# Altium footprint library 虚拟示波器.PCBLIB: 25 footprints (part 1 of 2)
Each footprint in its own frame and in the unit in brackets; x right, y up, seen from the top. Pads: shape width x height; smd on the part's side, far side on the other; paste and mask are expansions set on the pad; w line width, h text height; cw(c..) or ccw(c..) is an arc to the next point about the centre after c.
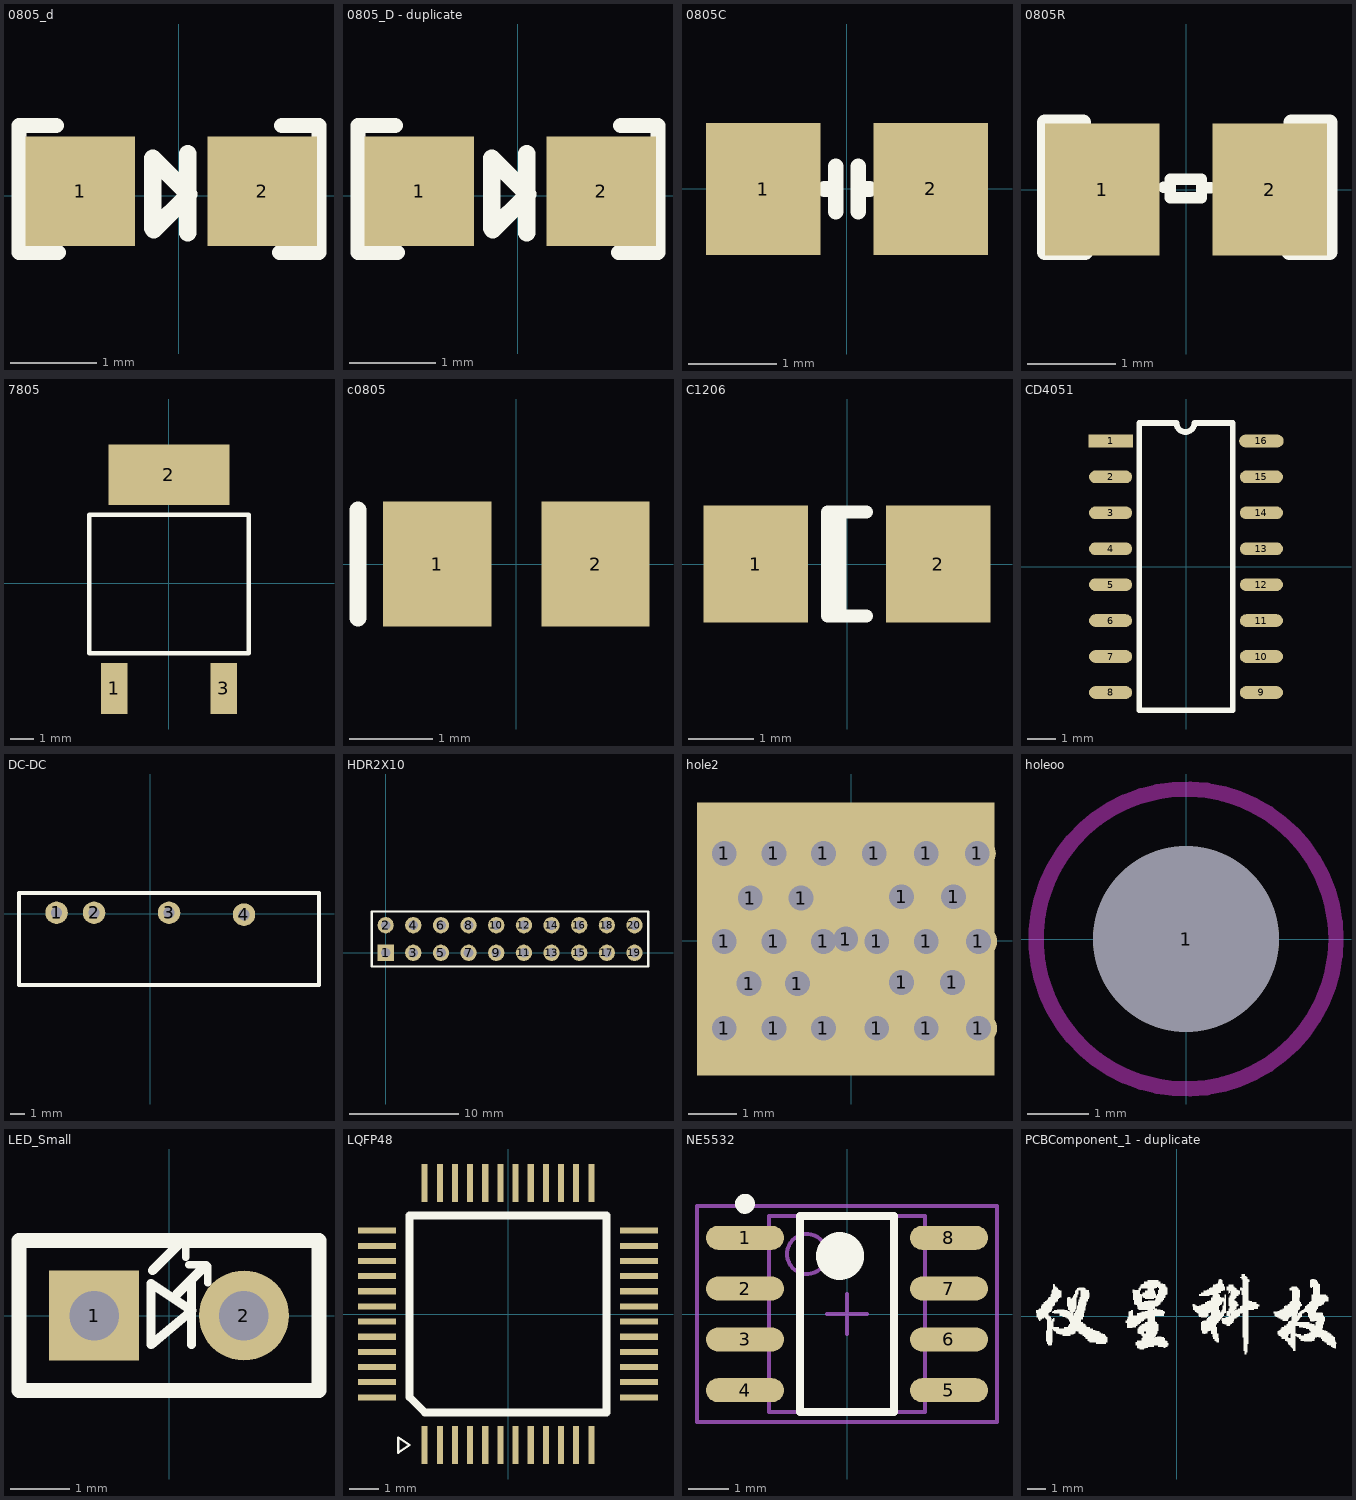
[diagram p0: the footprints below, top view; thin cyan lines are the x and y axes]

## 0805_d [mil]
pads (2):
  rect 50x50 smd: 1(-45,2) 2(38,2)
Top Overlay:
  lines w7: -56,32 -73,32 -73,-26 -55,-26 ; 46,-26 64,-26 64,32 47,32
  lines w8: -12,-15 -12,17 4.5,0.5 ; -11.5,-15.5 4,0 ; 4,-17 4,19

## 0805_D - duplicate [mil]
pads (2):
  rect 50x50 smd: 1(-45,2) 2(38,2)
Top Overlay:
  lines w7: -56,32 -73,32 -73,-26 -55,-26 ; 46,-26 64,-26 64,32 47,32
  lines w8: -12,-15 -12,17 4.5,0.5 ; -11.5,-15.5 4,0 ; 4,-17 4,19

## 0805C [mm] "Chip Capacitor; Body 2.0 x 1.2 mm (LxW typ)"
height 1.1
pads (2):
  rect 1.3x1.5 smd: 1(-0.95,0) 2(0.95,0)
Top Overlay:
  lines w0.178: -0.254,0 -0.127,0 ; -0.127,-0.254 -0.127,0.254 ; 0.127,-0.254 0.127,0.254 ; 0.127,0 0.254,0

## 0805R [mm] "Chip Capacitor; Body 2.0 x 1.2 mm (LxW typ)"
height 1.1
pads (2):
  rect 1.3x1.5 smd: 1(-0.95,0) 2(0.95,0)
Top Overlay:
  lines w0.127: -0.255,0.027 -0.178,0.027 ; 0.203,0.019 0.279,0.019 ; -0.178,0.117 0.177,0.117 0.177,-0.094 -0.178,-0.094 -0.178,0.117
  lines w0.178: -1.168,0.762 -1.6,0.762 -1.6,-0.711 -1.143,-0.711 ; 1.168,-0.711 1.626,-0.711 1.626,0.762 1.194,0.762

## 7805 [mm]
pads (3):
  rect 1.1x2.15 smd: 1(-2.3,-4.407) 3(2.3,-4.407)
  rect 5.08x2.54 smd: 2(0,4.572)
Top Overlay:
  lines w0.2: -3.35,-2.933 -3.35,2.883 3.35,2.883 3.35,-2.933 -3.35,-2.933

## c0805 [mm] "Chip Capacitor; Body 2.0 x 1.2 mm (LxW typ)"
height 1.1
pads (2):
  rect 1.3x1.5 smd: 1(-0.95,0) 2(0.95,0)
Top Overlay:
  lines w0.2: -1.9,-0.65 -1.9,0.65

## C1206 [mm] "Chip Capacitor; Body 3.2 x 1.6 mm (LxW typ)"
height 1.35
pads (2):
  rect 1.6x1.8 smd: 1(-1.4,0) 2(1.4,0)
Top Overlay:
  lines w0.2: -0.11,-0.8 -0.11,0.8 ; 0.3,-0.8 -0.3,-0.8 -0.3,0.8 0.3,0.8

## CD4051 [mil]
height 43.31
pads (16):
  rect 62x17.72 smd: 1(-105,175)
  oval 60x17.72 smd: 2(-105,125) 3(-105,75) 4(-105,25) 5(-105,-25) 6(-105,-75) 7(-105,-125) 8(-105,-175) 9(105,-175) 10(105,-125) 11(105,-75) 12(105,-25) 13(105,25) 14(105,75) 15(105,125)
  oval 62x17.72 smd: 16(105,175)
Top Overlay:
  lines w7.87: -40.7,-200 39.22,-200 ; -65,-200 -65,200 -13.24,200 ccw(c-0.74,200) 11.76,200 65,200 65,-200 -65,-200

## DC-DC [mil]
pads (4):
  round 60 hole 30: 1(-250,2.5) 2(-150,2.5) 3(50,2.5) 4(250,-2.5)
Top Overlay:
  lines w10: -350,-190 450,-190 450,55 -350,55 -350,-190

## HDR2X10 [mm] "Connector; Header; 10x2 Position"
height 1.1
pads (20):
  rect 1.5x1.5 hole 0.9: 1(0,0)
  round 1.5 hole 0.9: 2(0,2.54) 3(2.54,0) 4(2.54,2.54) 5(5.08,0) 6(5.08,2.54) 7(7.62,0) 8(7.62,2.54) 9(10.16,0) 10(10.16,2.54) 11(12.7,0) 12(12.7,2.54) 13(15.24,0) 14(15.24,2.54) 15(17.78,0) 16(17.78,2.54) 17(20.32,0) 18(20.32,2.54) 19(22.86,0) 20(22.86,2.54)
Top Overlay:
  lines w0.2: -1.27,-1.27 0.635,-1.27 24.13,-1.27 24.13,3.81 0.635,3.81 -1.27,3.81 -1.27,-1.27

## hole2 [mil]
pads (27):
  round 30 hole 20: 1(-102.5,-70.5) 1(-102.5,70.5) 1(-102.5,-0.5) 1(-82.5,-34.5) 1(-81.5,34.5) 1(-62.5,-0.5) 1(-62.5,-70.5) 1(-62.5,70.5) 1(-43.5,-34.5) 1(-40.5,34.5) 1(-22.5,-70.5) 1(-22.5,-0.5) 1(-22.5,70.5) 1(18.5,70.5) 1(20.5,-70.5) 1(20.5,-0.5) 1(40.5,-33.5) 1(40.5,35.5) 1(60.5,-70.5) 1(60.5,-0.5) 1(60.5,70.5) 1(81.5,-33.5) 1(82.5,35.5) 1(101.5,70.5) 1(102.5,-70.5) 1(102.5,-0.5)
  rect 240x220 hole 20: 1(-4.5,1.5)

## holeoo [mil]
pads (1):
  round 120 hole 120: 1(0,0)
Keep-Out Layer:
  circle w10: c0,0 r97

## LED_Small [mil]
pads (2):
  rect 60x60 hole 33: 1(-50,0)
  round 60 hole 33: 2(50,0)
Top Overlay:
  lines w5: -4,52 10,52 ; 11,39 11,51 ; 13,34 25,34 26,33 26,22
  lines w6: -11,30 9,50 ; 5,14 23,32 ; 15,-19.5 15,21.33 ; -12,-19.5 -12,21.33 15.22,3.19 -12,-19.5
  lines w10: -100,-50 100,-50 100,50 -100,50 -100,-50

## LQFP48 [mil]
height 43.31
pads (48):
  rect 8x50 smd: 1(-110,-173) 2(-90,-173) 3(-70,-173) 4(-50,-173) 5(-30,-173) 6(-10,-173) 7(10,-173) 8(30,-173) 9(50,-173) 10(70,-173) 11(90,-173) 12(110,-173) 25(110,173) 26(90,173) 27(70,173) 28(50,173) 29(30,173) 30(10,173) 31(-10,173) 32(-30,173) 33(-50,173) 34(-70,173) 35(-90,173) 36(-110,173)
  rect 50x8 smd: 13(173,-110) 14(173,-90) 15(173,-70) 16(173,-50) 17(173,-30) 18(173,-10) 19(173,10) 20(173,30) 21(173,50) 22(173,70) 23(173,90) 24(173,110) 37(-173,110) 38(-173,90) 39(-173,70) 40(-173,50) 41(-173,30) 42(-173,10) 43(-173,-10) 44(-173,-30) 45(-173,-50) 46(-173,-70) 47(-173,-90) 48(-173,-110)
Top Overlay:
  lines w3: -145,-183 -145,-163 -130,-173 -145,-183
  lines w10: -130,-110 -110,-130 130,-130 130,130 -130,130 -130,-110

## NE5532 [mm]
height 1.75
pads (8):
  oval 1.95x0.6 smd: 1(-2.55,1.905) 2(-2.55,0.635) 3(-2.55,-0.635) 4(-2.55,-1.905) 5(2.55,-1.905) 6(2.55,-0.635) 7(2.55,0.635) 8(2.55,1.905)
Top Overlay:
  circle w0.25: c-2.55,2.755 r0.125
  circle w0.6: c-0.175,1.45 r0.3
  lines w0.2: -1.175,-2.45 -1.175,2.45 1.175,2.45 1.175,-2.45 -1.175,-2.45
Mechanical 13:
  circle w0.1: c-1,1.5 r0.5
  lines w0.1: -1.95,-2.45 -1.95,2.45 1.95,2.45 1.95,-2.45 -1.95,-2.45
Mechanical 15:
  lines w0.1: -0.5,0 0.5,0 ; 0,-0.5 0,0.5 ; -3.75,-2.7 -3.75,2.7 3.75,2.7 3.75,-2.7 -3.75,-2.7
3D body: height 1.75, standoff 0.2, extent -1.95,-2.45 1.95,2.45

## PCBComponent_1 - duplicate [mil]
Top Overlay:
  drawing of 1410 lines, arcs and shapes, not listed